# Altium footprint library Analyzer_FootprintLib.PcbLib: 19 footprints (part 2 of 2)
Each footprint in its own frame and in the unit in brackets; x right, y up, seen from the top. Pads: shape width x height; smd on the part's side, far side on the other; paste and mask are expansions set on the pad; w line width, h text height; cw(c..) or ccw(c..) is an arc to the next point about the centre after c.
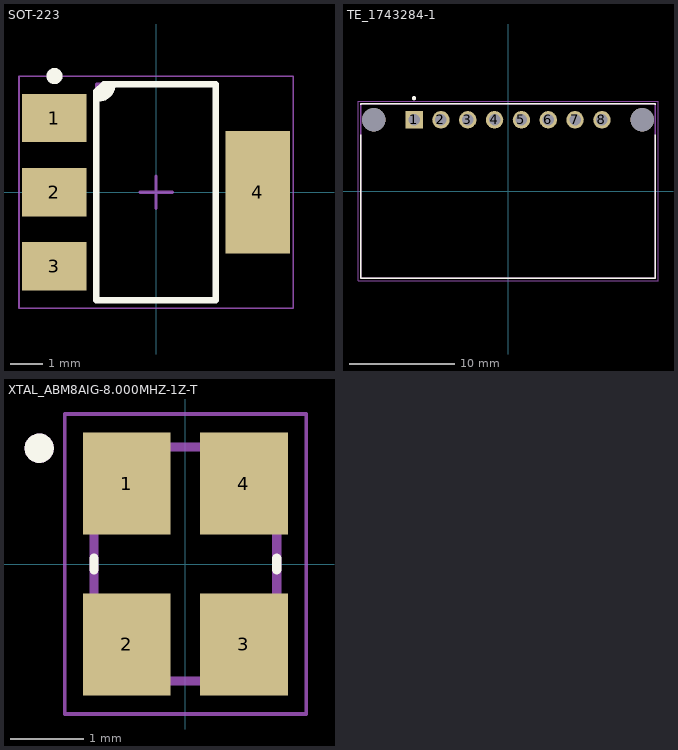
[diagram p1: the footprints below, top view; thin cyan lines are the x and y axes]

## SOT-223 [mm] "SOT223, 4-Leads, Body 6.50x7.00mm (avg), Pitch 2.30mm, IPC Medium Density"
height 1.8
pads (4):
  rect 2x1.5 smd: 1(-3.15,2.3) 2(-3.15,0) 3(-3.15,-2.3)
  rect 2x3.8 smd: 4(3.15,0)
Top Overlay:
  circle w0.25: c-3.15,3.6 r0.125
  region: -1.65,3.275 -1.35,3.35 -1.35,3.2 -1.65,2.9 -1.85,2.9
  lines w0.2: -1.85,2.9 -1.8,2.9 ccw(c-1.8,3.35) -1.35,3.35 ; -1.85,-3.35 1.85,-3.35 1.85,3.35 -1.625,3.35 -1.85,3.125 -1.85,-3.35
Mechanical 13:
  lines w0.1: -1.85,-3.35 -1.85,3.35 1.85,3.35 1.85,-3.35 -1.85,-3.35
Mechanical 15:
  lines w0.05: -4.25,-3.6 -4.25,3.6 4.25,3.6 4.25,-3.6 -4.25,-3.6
  lines w0.1: -0.5,0 0.5,0 ; 0,-0.5 0,0.5
3D body "SOT-223.STEP": height 1.8, standoff 0, extent -3.516,-3.25 3.5,3.25

## TE_1743284-1 [mm]
height 7.6
pads (10):
  rect 1.65x1.65 / inner round 1.65 / far side rect 1.65x1.65 hole 1.1: 1(-8.89,6.75)
  round 1.65 hole 1.1: 2(-6.35,6.75) 3(-3.81,6.75) 4(-1.27,6.75) 5(1.27,6.75) 6(3.81,6.75) 7(6.35,6.75) 8(8.89,6.75)
  round 2.2 hole 2.2 unplated: ""(-12.7,6.75) ""(12.7,6.75)
Top Overlay:
  circle w0.2: c-8.89,8.8 r0.1
  lines w0.127: -13.95,5.336 -13.95,-8.25 13.95,-8.25 13.95,5.336 ; -13.95,8.163 -13.95,8.25 13.95,8.25 13.95,8.163
Mechanical 1:
  circle w0.2: c-8.89,8.8 r0.1
  lines w0.127: -13.95,-8.25 -13.95,8.25 13.95,8.25 13.95,-8.25 -13.95,-8.25
Mechanical 15:
  lines w0.05: -14.2,-8.5 14.2,-8.5 14.2,8.5 -14.2,8.5 -14.2,-8.5
3D body "step_temp.STEP": height 7.6, standoff -3, extent -13.95,-8.25 13.95,8.25

## XTAL_ABM8AIG-8.000MHZ-1Z-T [mm]
height 0.8
pads (4):
  rect 1.2x1.4 smd: 1(-0.8,1.1) 2(-0.8,-1.1) 3(0.8,-1.1) 4(0.8,1.1)
Top Overlay:
  circle w0.2: c-1.998,1.583 r0.1
  lines w0.127: -1.25,-0.08 -1.25,0.08 ; 1.25,-0.08 1.25,0.08
Mechanical 1:
  circle w0.2: c-1.998,1.583 r0.1
  lines w0.127: -1.25,-1.6 -1.25,1.6 1.25,1.6 1.25,-1.6 -1.25,-1.6
Mechanical 15:
  lines w0.05: -1.65,-2.05 -1.65,2.05 1.65,2.05 1.65,-2.05 -1.65,-2.05
3D body "step_temp.STEP": height 0.8, standoff 0, extent -1.25,-1.6 1.25,1.6